# Altium integrated library Vishay Roederstein Electrolytic Radial-Lead Capacitor.IntLib: 1241 symbols (part 1 of 20)
Pins are listed as number, name and electrical type; pins without a type are passive.

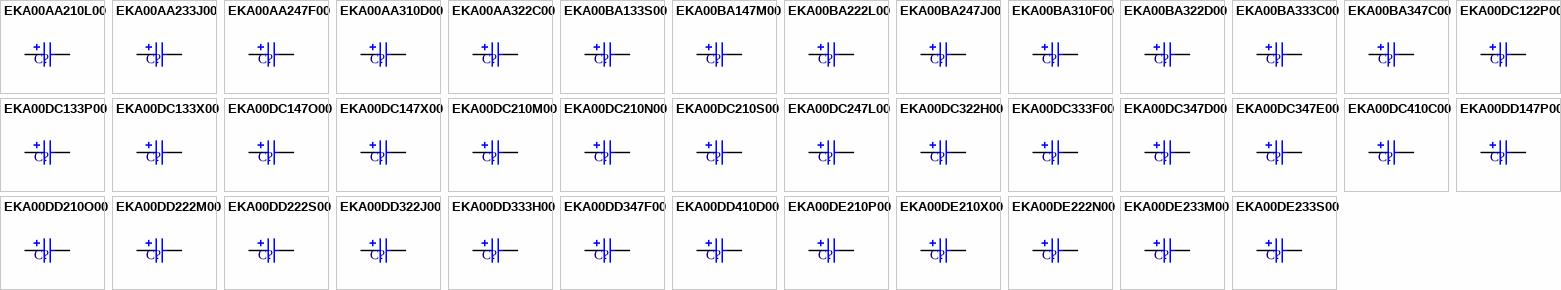
[diagram p0: symbols EKA00AA210L00 to EKA00DE233S00]

## EKA00AA210L00
designator C?
Aluminum Electrolytic Capacitor, Radial Style with Long Leads: 10uF, 100V; Note: Refer to Manufacturer's Data Sheets for other lead formations; DrillSize: Nominal, Rounded To The Nearest 0.1mm; Published: 19-Mar-2004; DatasheetDocument: 20-Feb-2001; PackageReference: CAPPR2-5X11; Publisher: Altium Limited; ComponentLink1Description: Manufacturer Link; ComponentLink1URL: http://www.vishay.com/; ComponentLink2Description: Datasheet; ComponentLink2URL: http://www.vishay.com/docs/25014/eka.pdf; Value: 10uF
footprint CAPPR2-5X11 (Capacitor, Electrolytic, Radial; Body 5 x 11 mm (Dia.xH typ); Pin Spacing 2 mm (typ))
simulation model CAP (Capacitor)
signal-integrity model EKA00AA210L00
pins: 1, 2
1 alternate drawing of the same symbol

## EKA00AA233J00
designator C?
Aluminum Electrolytic Capacitor, Radial Style with Long Leads: 33uF, 63V; Note: Refer to Manufacturer's Data Sheets for other lead formations; DrillSize: Nominal, Rounded To The Nearest 0.1mm; Published: 19-Mar-2004; DatasheetDocument: 20-Feb-2001; PackageReference: CAPPR2-5X11; Publisher: Altium Limited; ComponentLink1Description: Manufacturer Link; ComponentLink1URL: http://www.vishay.com/; ComponentLink2Description: Datasheet; ComponentLink2URL: http://www.vishay.com/docs/25014/eka.pdf; Value: 33uF
footprint CAPPR2-5X11 (Capacitor, Electrolytic, Radial; Body 5 x 11 mm (Dia.xH typ); Pin Spacing 2 mm (typ))
simulation model CAP (Capacitor)
signal-integrity model EKA00AA233J00
pins: 1, 2
1 alternate drawing of the same symbol

## EKA00AA247F00
designator C?
Aluminum Electrolytic Capacitor, Radial Style with Long Leads: 47uF, 35V; Note: Refer to Manufacturer's Data Sheets for other lead formations; DrillSize: Nominal, Rounded To The Nearest 0.1mm; Published: 19-Mar-2004; DatasheetDocument: 20-Feb-2001; PackageReference: CAPPR2-5X11; Publisher: Altium Limited; ComponentLink1Description: Manufacturer Link; ComponentLink1URL: http://www.vishay.com/; ComponentLink2Description: Datasheet; ComponentLink2URL: http://www.vishay.com/docs/25014/eka.pdf; Value: 47uF
footprint CAPPR2-5X11 (Capacitor, Electrolytic, Radial; Body 5 x 11 mm (Dia.xH typ); Pin Spacing 2 mm (typ))
simulation model CAP (Capacitor)
signal-integrity model EKA00AA247F00
pins: 1, 2
1 alternate drawing of the same symbol

## EKA00AA310D00
designator C?
Aluminum Electrolytic Capacitor, Radial Style with Long Leads: 100uF, 16V; Note: Refer to Manufacturer's Data Sheets for other lead formations; DrillSize: Nominal, Rounded To The Nearest 0.1mm; Published: 19-Mar-2004; DatasheetDocument: 20-Feb-2001; PackageReference: CAPPR2-5X11; Publisher: Altium Limited; ComponentLink1Description: Manufacturer Link; ComponentLink1URL: http://www.vishay.com/; ComponentLink2Description: Datasheet; ComponentLink2URL: http://www.vishay.com/docs/25014/eka.pdf; Value: 100uF
footprint CAPPR2-5X11 (Capacitor, Electrolytic, Radial; Body 5 x 11 mm (Dia.xH typ); Pin Spacing 2 mm (typ))
simulation model CAP (Capacitor)
signal-integrity model EKA00AA310D00
pins: 1, 2
1 alternate drawing of the same symbol

## EKA00AA322C00
designator C?
Aluminum Electrolytic Capacitor, Radial Style with Long Leads: 220uF, 10V; Note: Refer to Manufacturer's Data Sheets for other lead formations; DrillSize: Nominal, Rounded To The Nearest 0.1mm; Published: 19-Mar-2004; DatasheetDocument: 20-Feb-2001; PackageReference: CAPPR2-5X11; Publisher: Altium Limited; ComponentLink1Description: Manufacturer Link; ComponentLink1URL: http://www.vishay.com/; ComponentLink2Description: Datasheet; ComponentLink2URL: http://www.vishay.com/docs/25014/eka.pdf; Value: 220uF
footprint CAPPR2-5X11 (Capacitor, Electrolytic, Radial; Body 5 x 11 mm (Dia.xH typ); Pin Spacing 2 mm (typ))
simulation model CAP (Capacitor)
signal-integrity model EKA00AA322C00
pins: 1, 2
1 alternate drawing of the same symbol

## EKA00BA133S00
designator C?
Aluminum Electrolytic Capacitor, Radial Style with Long Leads: 3.3uF, 200V; Note: Refer to Manufacturer's Data Sheets for other lead formations; DrillSize: Nominal, Rounded To The Nearest 0.1mm; Published: 19-Mar-2004; DatasheetDocument: 20-Feb-2001; PackageReference: CAPPR2.5-6.3X11; Publisher: Altium Limited; ComponentLink1Description: Manufacturer Link; ComponentLink1URL: http://www.vishay.com/; ComponentLink2Description: Datasheet; ComponentLink2URL: http://www.vishay.com/docs/25014/eka.pdf; Value: 3.3uF
footprint CAPPR2.5-6.3X11 (Capacitor, Electrolytic, Radial; Body 6.3 x 11 mm (Dia.xH typ); Pin Spacing 2.5 mm (typ))
simulation model CAP (Capacitor)
signal-integrity model EKA00BA133S00
pins: 1, 2
1 alternate drawing of the same symbol

## EKA00BA147M00
designator C?
Aluminum Electrolytic Capacitor, Radial Style with Long Leads: 4.7uF, 160V; Note: Refer to Manufacturer's Data Sheets for other lead formations; DrillSize: Nominal, Rounded To The Nearest 0.1mm; Published: 19-Mar-2004; DatasheetDocument: 20-Feb-2001; PackageReference: CAPPR2.5-6.3X11; Publisher: Altium Limited; ComponentLink1Description: Manufacturer Link; ComponentLink1URL: http://www.vishay.com/; ComponentLink2Description: Datasheet; ComponentLink2URL: http://www.vishay.com/docs/25014/eka.pdf; Value: 4.7uF
footprint CAPPR2.5-6.3X11 (Capacitor, Electrolytic, Radial; Body 6.3 x 11 mm (Dia.xH typ); Pin Spacing 2.5 mm (typ))
simulation model CAP (Capacitor)
signal-integrity model EKA00BA147M00
pins: 1, 2
1 alternate drawing of the same symbol

## EKA00BA222L00
designator C?
Aluminum Electrolytic Capacitor, Radial Style with Long Leads: 22uF, 100V; Note: Refer to Manufacturer's Data Sheets for other lead formations; DrillSize: Nominal, Rounded To The Nearest 0.1mm; Published: 19-Mar-2004; DatasheetDocument: 20-Feb-2001; PackageReference: CAPPR2.5-6.3X11; Publisher: Altium Limited; ComponentLink1Description: Manufacturer Link; ComponentLink1URL: http://www.vishay.com/; ComponentLink2Description: Datasheet; ComponentLink2URL: http://www.vishay.com/docs/25014/eka.pdf; Value: 22uF
footprint CAPPR2.5-6.3X11 (Capacitor, Electrolytic, Radial; Body 6.3 x 11 mm (Dia.xH typ); Pin Spacing 2.5 mm (typ))
simulation model CAP (Capacitor)
signal-integrity model EKA00BA222L00
pins: 1, 2
1 alternate drawing of the same symbol

## EKA00BA247J00
designator C?
Aluminum Electrolytic Capacitor, Radial Style with Long Leads: 47uF, 63V; Note: Refer to Manufacturer's Data Sheets for other lead formations; DrillSize: Nominal, Rounded To The Nearest 0.1mm; Published: 19-Mar-2004; DatasheetDocument: 20-Feb-2001; PackageReference: CAPPR2.5-6.3X11; Publisher: Altium Limited; ComponentLink1Description: Manufacturer Link; ComponentLink1URL: http://www.vishay.com/; ComponentLink2Description: Datasheet; ComponentLink2URL: http://www.vishay.com/docs/25014/eka.pdf; Value: 47uF
footprint CAPPR2.5-6.3X11 (Capacitor, Electrolytic, Radial; Body 6.3 x 11 mm (Dia.xH typ); Pin Spacing 2.5 mm (typ))
simulation model CAP (Capacitor)
signal-integrity model EKA00BA247J00
pins: 1, 2
1 alternate drawing of the same symbol

## EKA00BA310F00
designator C?
Aluminum Electrolytic Capacitor, Radial Style with Long Leads: 100uF, 35V; Note: Refer to Manufacturer's Data Sheets for other lead formations; DrillSize: Nominal, Rounded To The Nearest 0.1mm; Published: 19-Mar-2004; DatasheetDocument: 20-Feb-2001; PackageReference: CAPPR2.5-6.3X11; Publisher: Altium Limited; ComponentLink1Description: Manufacturer Link; ComponentLink1URL: http://www.vishay.com/; ComponentLink2Description: Datasheet; ComponentLink2URL: http://www.vishay.com/docs/25014/eka.pdf; Value: 100uF
footprint CAPPR2.5-6.3X11 (Capacitor, Electrolytic, Radial; Body 6.3 x 11 mm (Dia.xH typ); Pin Spacing 2.5 mm (typ))
simulation model CAP (Capacitor)
signal-integrity model EKA00BA310F00
pins: 1, 2
1 alternate drawing of the same symbol

## EKA00BA322D00
designator C?
Aluminum Electrolytic Capacitor, Radial Style with Long Leads: 220uF, 16V; Note: Refer to Manufacturer's Data Sheets for other lead formations; DrillSize: Nominal, Rounded To The Nearest 0.1mm; Published: 19-Mar-2004; DatasheetDocument: 20-Feb-2001; PackageReference: CAPPR2.5-6.3X11; Publisher: Altium Limited; ComponentLink1Description: Manufacturer Link; ComponentLink1URL: http://www.vishay.com/; ComponentLink2Description: Datasheet; ComponentLink2URL: http://www.vishay.com/docs/25014/eka.pdf; Value: 220uF
footprint CAPPR2.5-6.3X11 (Capacitor, Electrolytic, Radial; Body 6.3 x 11 mm (Dia.xH typ); Pin Spacing 2.5 mm (typ))
simulation model CAP (Capacitor)
signal-integrity model EKA00BA322D00
pins: 1, 2
1 alternate drawing of the same symbol

## EKA00BA333C00
designator C?
Aluminum Electrolytic Capacitor, Radial Style with Long Leads: 330uF, 10V; Note: Refer to Manufacturer's Data Sheets for other lead formations; DrillSize: Nominal, Rounded To The Nearest 0.1mm; Published: 19-Mar-2004; DatasheetDocument: 20-Feb-2001; PackageReference: CAPPR2.5-6.3X11; Publisher: Altium Limited; ComponentLink1Description: Manufacturer Link; ComponentLink1URL: http://www.vishay.com/; ComponentLink2Description: Datasheet; ComponentLink2URL: http://www.vishay.com/docs/25014/eka.pdf; Value: 330uF
footprint CAPPR2.5-6.3X11 (Capacitor, Electrolytic, Radial; Body 6.3 x 11 mm (Dia.xH typ); Pin Spacing 2.5 mm (typ))
simulation model CAP (Capacitor)
signal-integrity model EKA00BA333C00
pins: 1, 2
1 alternate drawing of the same symbol

## EKA00BA347C00
designator C?
Aluminum Electrolytic Capacitor, Radial Style with Long Leads: 470uF, 10V; Note: Refer to Manufacturer's Data Sheets for other lead formations; DrillSize: Nominal, Rounded To The Nearest 0.1mm; Published: 19-Mar-2004; DatasheetDocument: 20-Feb-2001; PackageReference: CAPPR2.5-6.3X11; Publisher: Altium Limited; ComponentLink1Description: Manufacturer Link; ComponentLink1URL: http://www.vishay.com/; ComponentLink2Description: Datasheet; ComponentLink2URL: http://www.vishay.com/docs/25014/eka.pdf; Value: 470uF
footprint CAPPR2.5-6.3X11 (Capacitor, Electrolytic, Radial; Body 6.3 x 11 mm (Dia.xH typ); Pin Spacing 2.5 mm (typ))
simulation model CAP (Capacitor)
signal-integrity model EKA00BA347C00
pins: 1, 2
1 alternate drawing of the same symbol

## EKA00DC122P00
designator C?
Aluminum Electrolytic Capacitor, Radial Style with Long Leads: 2.2uF, 450V; Note: Refer to Manufacturer's Data Sheets for other lead formations; DrillSize: Nominal, Rounded To The Nearest 0.1mm; Published: 19-Mar-2004; DatasheetDocument: 20-Feb-2001; PackageReference: CAPPR5-10X12.5; Publisher: Altium Limited; ComponentLink1Description: Manufacturer Link; ComponentLink1URL: http://www.vishay.com/; ComponentLink2Description: Datasheet; ComponentLink2URL: http://www.vishay.com/docs/25014/eka.pdf; Value: 2.2uF
footprint CAPPR5-10X12.5 (Capacitor, Electrolytic, Radial; Body 10 x 12.5 mm (Dia.xH typ); Pin Spacing 5 mm (typ))
simulation model CAP (Capacitor)
signal-integrity model EKA00DC122P00
pins: 1, 2
1 alternate drawing of the same symbol

## EKA00DC133P00
designator C?
Aluminum Electrolytic Capacitor, Radial Style with Long Leads: 3.3uF, 450V; Note: Refer to Manufacturer's Data Sheets for other lead formations; DrillSize: Nominal, Rounded To The Nearest 0.1mm; Published: 19-Mar-2004; DatasheetDocument: 20-Feb-2001; PackageReference: CAPPR5-10X12.5; Publisher: Altium Limited; ComponentLink1Description: Manufacturer Link; ComponentLink1URL: http://www.vishay.com/; ComponentLink2Description: Datasheet; ComponentLink2URL: http://www.vishay.com/docs/25014/eka.pdf; Value: 3.3uF
footprint CAPPR5-10X12.5 (Capacitor, Electrolytic, Radial; Body 10 x 12.5 mm (Dia.xH typ); Pin Spacing 5 mm (typ))
simulation model CAP (Capacitor)
signal-integrity model EKA00DC133P00
pins: 1, 2
1 alternate drawing of the same symbol

## EKA00DC133X00
designator C?
Aluminum Electrolytic Capacitor, Radial Style with Long Leads: 3.3uF, 400V; Note: Refer to Manufacturer's Data Sheets for other lead formations; DrillSize: Nominal, Rounded To The Nearest 0.1mm; Published: 19-Mar-2004; DatasheetDocument: 20-Feb-2001; PackageReference: CAPPR5-10X12.5; Publisher: Altium Limited; ComponentLink1Description: Manufacturer Link; ComponentLink1URL: http://www.vishay.com/; ComponentLink2Description: Datasheet; ComponentLink2URL: http://www.vishay.com/docs/25014/eka.pdf; Value: 3.3uF
footprint CAPPR5-10X12.5 (Capacitor, Electrolytic, Radial; Body 10 x 12.5 mm (Dia.xH typ); Pin Spacing 5 mm (typ))
simulation model CAP (Capacitor)
signal-integrity model EKA00DC133X00
pins: 1, 2
1 alternate drawing of the same symbol

## EKA00DC147O00
designator C?
Aluminum Electrolytic Capacitor, Radial Style with Long Leads: 4.7uF, 350V; Note: Refer to Manufacturer's Data Sheets for other lead formations; DrillSize: Nominal, Rounded To The Nearest 0.1mm; Published: 19-Mar-2004; DatasheetDocument: 20-Feb-2001; PackageReference: CAPPR5-10X12.5; Publisher: Altium Limited; ComponentLink1Description: Manufacturer Link; ComponentLink1URL: http://www.vishay.com/; ComponentLink2Description: Datasheet; ComponentLink2URL: http://www.vishay.com/docs/25014/eka.pdf; Value: 4.7uF
footprint CAPPR5-10X12.5 (Capacitor, Electrolytic, Radial; Body 10 x 12.5 mm (Dia.xH typ); Pin Spacing 5 mm (typ))
simulation model CAP (Capacitor)
signal-integrity model EKA00DC147O00
pins: 1, 2
1 alternate drawing of the same symbol

## EKA00DC147X00
designator C?
Aluminum Electrolytic Capacitor, Radial Style with Long Leads: 4.7uF, 400V; Note: Refer to Manufacturer's Data Sheets for other lead formations; DrillSize: Nominal, Rounded To The Nearest 0.1mm; Published: 19-Mar-2004; DatasheetDocument: 20-Feb-2001; PackageReference: CAPPR5-10X12.5; Publisher: Altium Limited; ComponentLink1Description: Manufacturer Link; ComponentLink1URL: http://www.vishay.com/; ComponentLink2Description: Datasheet; ComponentLink2URL: http://www.vishay.com/docs/25014/eka.pdf; Value: 4.7uF
footprint CAPPR5-10X12.5 (Capacitor, Electrolytic, Radial; Body 10 x 12.5 mm (Dia.xH typ); Pin Spacing 5 mm (typ))
simulation model CAP (Capacitor)
signal-integrity model EKA00DC147X00
pins: 1, 2
1 alternate drawing of the same symbol

## EKA00DC210M00
designator C?
Aluminum Electrolytic Capacitor, Radial Style with Long Leads: 10uF, 160V; Note: Refer to Manufacturer's Data Sheets for other lead formations; DrillSize: Nominal, Rounded To The Nearest 0.1mm; Published: 19-Mar-2004; DatasheetDocument: 20-Feb-2001; PackageReference: CAPPR5-10X12.5; Publisher: Altium Limited; ComponentLink1Description: Manufacturer Link; ComponentLink1URL: http://www.vishay.com/; ComponentLink2Description: Datasheet; ComponentLink2URL: http://www.vishay.com/docs/25014/eka.pdf; Value: 10uF
footprint CAPPR5-10X12.5 (Capacitor, Electrolytic, Radial; Body 10 x 12.5 mm (Dia.xH typ); Pin Spacing 5 mm (typ))
simulation model CAP (Capacitor)
signal-integrity model EKA00DC210M00
pins: 1, 2
1 alternate drawing of the same symbol

## EKA00DC210N00
designator C?
Aluminum Electrolytic Capacitor, Radial Style with Long Leads: 10uF, 250V; Note: Refer to Manufacturer's Data Sheets for other lead formations; DrillSize: Nominal, Rounded To The Nearest 0.1mm; Published: 19-Mar-2004; DatasheetDocument: 20-Feb-2001; PackageReference: CAPPR5-10X12.5; Publisher: Altium Limited; ComponentLink1Description: Manufacturer Link; ComponentLink1URL: http://www.vishay.com/; ComponentLink2Description: Datasheet; ComponentLink2URL: http://www.vishay.com/docs/25014/eka.pdf; Value: 10uF
footprint CAPPR5-10X12.5 (Capacitor, Electrolytic, Radial; Body 10 x 12.5 mm (Dia.xH typ); Pin Spacing 5 mm (typ))
simulation model CAP (Capacitor)
signal-integrity model EKA00DC210N00
pins: 1, 2
1 alternate drawing of the same symbol

## EKA00DC210S00
designator C?
Aluminum Electrolytic Capacitor, Radial Style with Long Leads: 10uF, 200V; Note: Refer to Manufacturer's Data Sheets for other lead formations; DrillSize: Nominal, Rounded To The Nearest 0.1mm; Published: 19-Mar-2004; DatasheetDocument: 20-Feb-2001; PackageReference: CAPPR5-10X12.5; Publisher: Altium Limited; ComponentLink1Description: Manufacturer Link; ComponentLink1URL: http://www.vishay.com/; ComponentLink2Description: Datasheet; ComponentLink2URL: http://www.vishay.com/docs/25014/eka.pdf; Value: 10uF
footprint CAPPR5-10X12.5 (Capacitor, Electrolytic, Radial; Body 10 x 12.5 mm (Dia.xH typ); Pin Spacing 5 mm (typ))
simulation model CAP (Capacitor)
signal-integrity model EKA00DC210S00
pins: 1, 2
1 alternate drawing of the same symbol

## EKA00DC247L00
designator C?
Aluminum Electrolytic Capacitor, Radial Style with Long Leads: 47uF, 100V; Note: Refer to Manufacturer's Data Sheets for other lead formations; DrillSize: Nominal, Rounded To The Nearest 0.1mm; Published: 19-Mar-2004; DatasheetDocument: 20-Feb-2001; PackageReference: CAPPR5-10X12.5; Publisher: Altium Limited; ComponentLink1Description: Manufacturer Link; ComponentLink1URL: http://www.vishay.com/; ComponentLink2Description: Datasheet; ComponentLink2URL: http://www.vishay.com/docs/25014/eka.pdf; Value: 47uF
footprint CAPPR5-10X12.5 (Capacitor, Electrolytic, Radial; Body 10 x 12.5 mm (Dia.xH typ); Pin Spacing 5 mm (typ))
simulation model CAP (Capacitor)
signal-integrity model EKA00DC247L00
pins: 1, 2
1 alternate drawing of the same symbol

## EKA00DC322H00
designator C?
Aluminum Electrolytic Capacitor, Radial Style with Long Leads: 220uF, 50V; Note: Refer to Manufacturer's Data Sheets for other lead formations; DrillSize: Nominal, Rounded To The Nearest 0.1mm; Published: 19-Mar-2004; DatasheetDocument: 20-Feb-2001; PackageReference: CAPPR5-10X12.5; Publisher: Altium Limited; ComponentLink1Description: Manufacturer Link; ComponentLink1URL: http://www.vishay.com/; ComponentLink2Description: Datasheet; ComponentLink2URL: http://www.vishay.com/docs/25014/eka.pdf; Value: 220uF
footprint CAPPR5-10X12.5 (Capacitor, Electrolytic, Radial; Body 10 x 12.5 mm (Dia.xH typ); Pin Spacing 5 mm (typ))
simulation model CAP (Capacitor)
signal-integrity model EKA00DC322H00
pins: 1, 2
1 alternate drawing of the same symbol

## EKA00DC333F00
designator C?
Aluminum Electrolytic Capacitor, Radial Style with Long Leads: 330uF, 35V; Note: Refer to Manufacturer's Data Sheets for other lead formations; DrillSize: Nominal, Rounded To The Nearest 0.1mm; Published: 19-Mar-2004; DatasheetDocument: 20-Feb-2001; PackageReference: CAPPR5-10X12.5; Publisher: Altium Limited; ComponentLink1Description: Manufacturer Link; ComponentLink1URL: http://www.vishay.com/; ComponentLink2Description: Datasheet; ComponentLink2URL: http://www.vishay.com/docs/25014/eka.pdf; Value: 330uF
footprint CAPPR5-10X12.5 (Capacitor, Electrolytic, Radial; Body 10 x 12.5 mm (Dia.xH typ); Pin Spacing 5 mm (typ))
simulation model CAP (Capacitor)
signal-integrity model EKA00DC333F00
pins: 1, 2
1 alternate drawing of the same symbol

## EKA00DC347D00
designator C?
Aluminum Electrolytic Capacitor, Radial Style with Long Leads: 470uF, 16V; Note: Refer to Manufacturer's Data Sheets for other lead formations; DrillSize: Nominal, Rounded To The Nearest 0.1mm; Published: 19-Mar-2004; DatasheetDocument: 20-Feb-2001; PackageReference: CAPPR3.5-8X11.5; Publisher: Altium Limited; ComponentLink1Description: Manufacturer Link; ComponentLink1URL: http://www.vishay.com/; ComponentLink2Description: Datasheet; ComponentLink2URL: http://www.vishay.com/docs/25014/eka.pdf; Value: 470uF
footprint CAPPR3.5-8X11.5 (Capacitor, Electrolytic, Radial; Body 8 x 11.5 mm (Dia.xH typ); Pin Spacing 3.5 mm (typ))
simulation model CAP (Capacitor)
signal-integrity model EKA00DC347D00
pins: 1, 2
1 alternate drawing of the same symbol

## EKA00DC347E00
designator C?
Aluminum Electrolytic Capacitor, Radial Style with Long Leads: 470uF, 25V; Note: Refer to Manufacturer's Data Sheets for other lead formations; DrillSize: Nominal, Rounded To The Nearest 0.1mm; Published: 19-Mar-2004; DatasheetDocument: 20-Feb-2001; PackageReference: CAPPR5-10X12.5; Publisher: Altium Limited; ComponentLink1Description: Manufacturer Link; ComponentLink1URL: http://www.vishay.com/; ComponentLink2Description: Datasheet; ComponentLink2URL: http://www.vishay.com/docs/25014/eka.pdf; Value: 470uF
footprint CAPPR5-10X12.5 (Capacitor, Electrolytic, Radial; Body 10 x 12.5 mm (Dia.xH typ); Pin Spacing 5 mm (typ))
simulation model CAP (Capacitor)
signal-integrity model EKA00DC347E00
pins: 1, 2
1 alternate drawing of the same symbol

## EKA00DC410C00
designator C?
Aluminum Electrolytic Capacitor, Radial Style with Long Leads: 1000uF, 10V; Note: Refer to Manufacturer's Data Sheets for other lead formations; DrillSize: Nominal, Rounded To The Nearest 0.1mm; Published: 19-Mar-2004; DatasheetDocument: 20-Feb-2001; PackageReference: CAPPR5-10X12.5; Publisher: Altium Limited; ComponentLink1Description: Manufacturer Link; ComponentLink1URL: http://www.vishay.com/; ComponentLink2Description: Datasheet; ComponentLink2URL: http://www.vishay.com/docs/25014/eka.pdf; Value: 1000uF
footprint CAPPR5-10X12.5 (Capacitor, Electrolytic, Radial; Body 10 x 12.5 mm (Dia.xH typ); Pin Spacing 5 mm (typ))
simulation model CAP (Capacitor)
signal-integrity model EKA00DC410C00
pins: 1, 2
1 alternate drawing of the same symbol

## EKA00DD147P00
designator C?
Aluminum Electrolytic Capacitor, Radial Style with Long Leads: 4.7uF, 450V; Note: Refer to Manufacturer's Data Sheets for other lead formations; DrillSize: Nominal, Rounded To The Nearest 0.1mm; Published: 19-Mar-2004; DatasheetDocument: 20-Feb-2001; PackageReference: CAPPR5-10X16; Publisher: Altium Limited; ComponentLink1Description: Manufacturer Link; ComponentLink1URL: http://www.vishay.com/; ComponentLink2Description: Datasheet; ComponentLink2URL: http://www.vishay.com/docs/25014/eka.pdf; Value: 4.7uF
footprint CAPPR5-10X16 (Capacitor, Electrolytic, Radial; Body 10 x 16 mm (Dia.xH typ); Pin Spacing 5 mm (typ))
simulation model CAP (Capacitor)
signal-integrity model EKA00DD147P00
pins: 1, 2
1 alternate drawing of the same symbol

## EKA00DD210O00
designator C?
Aluminum Electrolytic Capacitor, Radial Style with Long Leads: 10uF, 350V; Note: Refer to Manufacturer's Data Sheets for other lead formations; DrillSize: Nominal, Rounded To The Nearest 0.1mm; Published: 19-Mar-2004; DatasheetDocument: 20-Feb-2001; PackageReference: CAPPR5-10X16; Publisher: Altium Limited; ComponentLink1Description: Manufacturer Link; ComponentLink1URL: http://www.vishay.com/; ComponentLink2Description: Datasheet; ComponentLink2URL: http://www.vishay.com/docs/25014/eka.pdf; Value: 10uF
footprint CAPPR5-10X16 (Capacitor, Electrolytic, Radial; Body 10 x 16 mm (Dia.xH typ); Pin Spacing 5 mm (typ))
simulation model CAP (Capacitor)
signal-integrity model EKA00DD210O00
pins: 1, 2
1 alternate drawing of the same symbol

## EKA00DD222M00
designator C?
Aluminum Electrolytic Capacitor, Radial Style with Long Leads: 22uF, 160V; Note: Refer to Manufacturer's Data Sheets for other lead formations; DrillSize: Nominal, Rounded To The Nearest 0.1mm; Published: 19-Mar-2004; DatasheetDocument: 20-Feb-2001; PackageReference: CAPPR5-10X16; Publisher: Altium Limited; ComponentLink1Description: Manufacturer Link; ComponentLink1URL: http://www.vishay.com/; ComponentLink2Description: Datasheet; ComponentLink2URL: http://www.vishay.com/docs/25014/eka.pdf; Value: 22uF
footprint CAPPR5-10X16 (Capacitor, Electrolytic, Radial; Body 10 x 16 mm (Dia.xH typ); Pin Spacing 5 mm (typ))
simulation model CAP (Capacitor)
signal-integrity model EKA00DD222M00
pins: 1, 2
1 alternate drawing of the same symbol

## EKA00DD222S00
designator C?
Aluminum Electrolytic Capacitor, Radial Style with Long Leads: 22uF, 200V; Note: Refer to Manufacturer's Data Sheets for other lead formations; DrillSize: Nominal, Rounded To The Nearest 0.1mm; Published: 19-Mar-2004; DatasheetDocument: 20-Feb-2001; PackageReference: CAPPR5-10X16; Publisher: Altium Limited; ComponentLink1Description: Manufacturer Link; ComponentLink1URL: http://www.vishay.com/; ComponentLink2Description: Datasheet; ComponentLink2URL: http://www.vishay.com/docs/25014/eka.pdf; Value: 22uF
footprint CAPPR5-10X16 (Capacitor, Electrolytic, Radial; Body 10 x 16 mm (Dia.xH typ); Pin Spacing 5 mm (typ))
simulation model CAP (Capacitor)
signal-integrity model EKA00DD222S00
pins: 1, 2
1 alternate drawing of the same symbol

## EKA00DD322J00
designator C?
Aluminum Electrolytic Capacitor, Radial Style with Long Leads: 220uF, 63V; Note: Refer to Manufacturer's Data Sheets for other lead formations; DrillSize: Nominal, Rounded To The Nearest 0.1mm; Published: 19-Mar-2004; DatasheetDocument: 20-Feb-2001; PackageReference: CAPPR5-10X16; Publisher: Altium Limited; ComponentLink1Description: Manufacturer Link; ComponentLink1URL: http://www.vishay.com/; ComponentLink2Description: Datasheet; ComponentLink2URL: http://www.vishay.com/docs/25014/eka.pdf; Value: 220uF
footprint CAPPR5-10X16 (Capacitor, Electrolytic, Radial; Body 10 x 16 mm (Dia.xH typ); Pin Spacing 5 mm (typ))
simulation model CAP (Capacitor)
signal-integrity model EKA00DD322J00
pins: 1, 2
1 alternate drawing of the same symbol

## EKA00DD333H00
designator C?
Aluminum Electrolytic Capacitor, Radial Style with Long Leads: 330uF, 50V; Note: Refer to Manufacturer's Data Sheets for other lead formations; DrillSize: Nominal, Rounded To The Nearest 0.1mm; Published: 19-Mar-2004; DatasheetDocument: 20-Feb-2001; PackageReference: CAPPR5-10X16; Publisher: Altium Limited; ComponentLink1Description: Manufacturer Link; ComponentLink1URL: http://www.vishay.com/; ComponentLink2Description: Datasheet; ComponentLink2URL: http://www.vishay.com/docs/25014/eka.pdf; Value: 330uF
footprint CAPPR5-10X16 (Capacitor, Electrolytic, Radial; Body 10 x 16 mm (Dia.xH typ); Pin Spacing 5 mm (typ))
simulation model CAP (Capacitor)
signal-integrity model EKA00DD333H00
pins: 1, 2
1 alternate drawing of the same symbol

## EKA00DD347F00
designator C?
Aluminum Electrolytic Capacitor, Radial Style with Long Leads: 470uF, 35V; Note: Refer to Manufacturer's Data Sheets for other lead formations; DrillSize: Nominal, Rounded To The Nearest 0.1mm; Published: 19-Mar-2004; DatasheetDocument: 20-Feb-2001; PackageReference: CAPPR5-10X16; Publisher: Altium Limited; ComponentLink1Description: Manufacturer Link; ComponentLink1URL: http://www.vishay.com/; ComponentLink2Description: Datasheet; ComponentLink2URL: http://www.vishay.com/docs/25014/eka.pdf; Value: 470uF
footprint CAPPR5-10X16 (Capacitor, Electrolytic, Radial; Body 10 x 16 mm (Dia.xH typ); Pin Spacing 5 mm (typ))
simulation model CAP (Capacitor)
signal-integrity model EKA00DD347F00
pins: 1, 2
1 alternate drawing of the same symbol

## EKA00DD410D00
designator C?
Aluminum Electrolytic Capacitor, Radial Style with Long Leads: 1000uF, 16V; Note: Refer to Manufacturer's Data Sheets for other lead formations; DrillSize: Nominal, Rounded To The Nearest 0.1mm; Published: 19-Mar-2004; DatasheetDocument: 20-Feb-2001; PackageReference: CAPPR5-10X16; Publisher: Altium Limited; ComponentLink1Description: Manufacturer Link; ComponentLink1URL: http://www.vishay.com/; ComponentLink2Description: Datasheet; ComponentLink2URL: http://www.vishay.com/docs/25014/eka.pdf; Value: 1000uF
footprint CAPPR5-10X16 (Capacitor, Electrolytic, Radial; Body 10 x 16 mm (Dia.xH typ); Pin Spacing 5 mm (typ))
simulation model CAP (Capacitor)
signal-integrity model EKA00DD410D00
pins: 1, 2
1 alternate drawing of the same symbol

## EKA00DE210P00
designator C?
Aluminum Electrolytic Capacitor, Radial Style with Long Leads: 10uF, 450V; Note: Refer to Manufacturer's Data Sheets for other lead formations; DrillSize: Nominal, Rounded To The Nearest 0.1mm; Published: 19-Mar-2004; DatasheetDocument: 20-Feb-2001; PackageReference: CAPPR5-10X20; Publisher: Altium Limited; ComponentLink1Description: Manufacturer Link; ComponentLink1URL: http://www.vishay.com/; ComponentLink2Description: Datasheet; ComponentLink2URL: http://www.vishay.com/docs/25014/eka.pdf; Value: 10uF
footprint CAPPR5-10X20 (Capacitor, Electrolytic, Radial; Body 10 x 20 mm (Dia.xH typ); Pin Spacing 5 mm (typ))
simulation model CAP (Capacitor)
signal-integrity model EKA00DE210P00
pins: 1, 2
1 alternate drawing of the same symbol

## EKA00DE210X00
designator C?
Aluminum Electrolytic Capacitor, Radial Style with Long Leads: 10uF, 400V; Note: Refer to Manufacturer's Data Sheets for other lead formations; DrillSize: Nominal, Rounded To The Nearest 0.1mm; Published: 19-Mar-2004; DatasheetDocument: 20-Feb-2001; PackageReference: CAPPR5-10X20; Publisher: Altium Limited; ComponentLink1Description: Manufacturer Link; ComponentLink1URL: http://www.vishay.com/; ComponentLink2Description: Datasheet; ComponentLink2URL: http://www.vishay.com/docs/25014/eka.pdf; Value: 10uF
footprint CAPPR5-10X20 (Capacitor, Electrolytic, Radial; Body 10 x 20 mm (Dia.xH typ); Pin Spacing 5 mm (typ))
simulation model CAP (Capacitor)
signal-integrity model EKA00DE210X00
pins: 1, 2
1 alternate drawing of the same symbol

## EKA00DE222N00
designator C?
Aluminum Electrolytic Capacitor, Radial Style with Long Leads: 22uF, 250V; Note: Refer to Manufacturer's Data Sheets for other lead formations; DrillSize: Nominal, Rounded To The Nearest 0.1mm; Published: 19-Mar-2004; DatasheetDocument: 20-Feb-2001; PackageReference: CAPPR5-10X20; Publisher: Altium Limited; ComponentLink1Description: Manufacturer Link; ComponentLink1URL: http://www.vishay.com/; ComponentLink2Description: Datasheet; ComponentLink2URL: http://www.vishay.com/docs/25014/eka.pdf; Value: 22uF
footprint CAPPR5-10X20 (Capacitor, Electrolytic, Radial; Body 10 x 20 mm (Dia.xH typ); Pin Spacing 5 mm (typ))
simulation model CAP (Capacitor)
signal-integrity model EKA00DE222N00
pins: 1, 2
1 alternate drawing of the same symbol

## EKA00DE233M00
designator C?
Aluminum Electrolytic Capacitor, Radial Style with Long Leads: 33uF, 160V; Note: Refer to Manufacturer's Data Sheets for other lead formations; DrillSize: Nominal, Rounded To The Nearest 0.1mm; Published: 19-Mar-2004; DatasheetDocument: 20-Feb-2001; PackageReference: CAPPR5-10X20; Publisher: Altium Limited; ComponentLink1Description: Manufacturer Link; ComponentLink1URL: http://www.vishay.com/; ComponentLink2Description: Datasheet; ComponentLink2URL: http://www.vishay.com/docs/25014/eka.pdf; Value: 33uF
footprint CAPPR5-10X20 (Capacitor, Electrolytic, Radial; Body 10 x 20 mm (Dia.xH typ); Pin Spacing 5 mm (typ))
simulation model CAP (Capacitor)
signal-integrity model EKA00DE233M00
pins: 1, 2
1 alternate drawing of the same symbol

## EKA00DE233S00
designator C?
Aluminum Electrolytic Capacitor, Radial Style with Long Leads: 33uF, 200V; Note: Refer to Manufacturer's Data Sheets for other lead formations; DrillSize: Nominal, Rounded To The Nearest 0.1mm; Published: 19-Mar-2004; DatasheetDocument: 20-Feb-2001; PackageReference: CAPPR5-10X20; Publisher: Altium Limited; ComponentLink1Description: Manufacturer Link; ComponentLink1URL: http://www.vishay.com/; ComponentLink2Description: Datasheet; ComponentLink2URL: http://www.vishay.com/docs/25014/eka.pdf; Value: 33uF
footprint CAPPR5-10X20 (Capacitor, Electrolytic, Radial; Body 10 x 20 mm (Dia.xH typ); Pin Spacing 5 mm (typ))
simulation model CAP (Capacitor)
signal-integrity model EKA00DE233S00
pins: 1, 2
1 alternate drawing of the same symbol

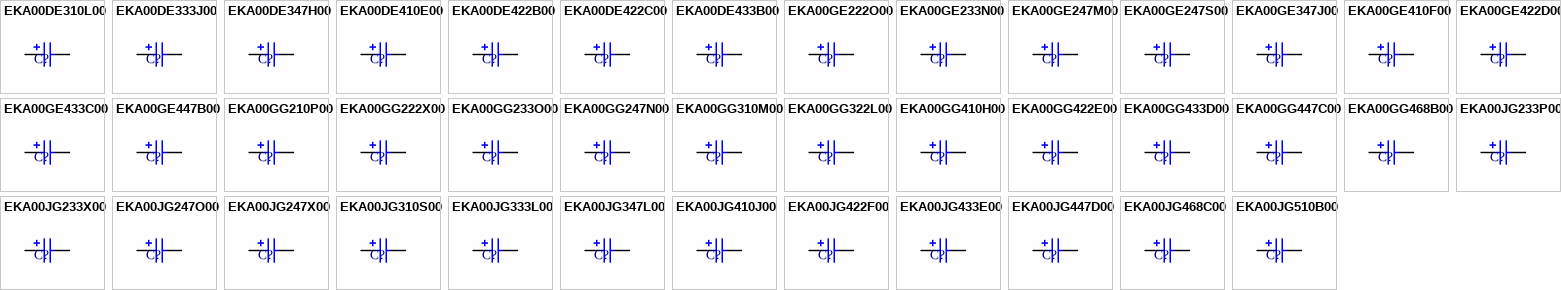
[diagram p1: symbols EKA00DE310L00 to EKA00JG510B00]

## EKA00DE310L00
designator C?
Aluminum Electrolytic Capacitor, Radial Style with Long Leads: 100uF, 100V; Note: Refer to Manufacturer's Data Sheets for other lead formations; DrillSize: Nominal, Rounded To The Nearest 0.1mm; Published: 19-Mar-2004; DatasheetDocument: 20-Feb-2001; PackageReference: CAPPR5-10X20; Publisher: Altium Limited; ComponentLink1Description: Manufacturer Link; ComponentLink1URL: http://www.vishay.com/; ComponentLink2Description: Datasheet; ComponentLink2URL: http://www.vishay.com/docs/25014/eka.pdf; Value: 100uF
footprint CAPPR5-10X20 (Capacitor, Electrolytic, Radial; Body 10 x 20 mm (Dia.xH typ); Pin Spacing 5 mm (typ))
simulation model CAP (Capacitor)
signal-integrity model EKA00DE310L00
pins: 1, 2
1 alternate drawing of the same symbol

## EKA00DE333J00
designator C?
Aluminum Electrolytic Capacitor, Radial Style with Long Leads: 330uF, 63V; Note: Refer to Manufacturer's Data Sheets for other lead formations; DrillSize: Nominal, Rounded To The Nearest 0.1mm; Published: 19-Mar-2004; DatasheetDocument: 20-Feb-2001; PackageReference: CAPPR5-10X20; Publisher: Altium Limited; ComponentLink1Description: Manufacturer Link; ComponentLink1URL: http://www.vishay.com/; ComponentLink2Description: Datasheet; ComponentLink2URL: http://www.vishay.com/docs/25014/eka.pdf; Value: 330uF
footprint CAPPR5-10X20 (Capacitor, Electrolytic, Radial; Body 10 x 20 mm (Dia.xH typ); Pin Spacing 5 mm (typ))
simulation model CAP (Capacitor)
signal-integrity model EKA00DE333J00
pins: 1, 2
1 alternate drawing of the same symbol

## EKA00DE347H00
designator C?
Aluminum Electrolytic Capacitor, Radial Style with Long Leads: 470uF, 50V; Note: Refer to Manufacturer's Data Sheets for other lead formations; DrillSize: Nominal, Rounded To The Nearest 0.1mm; Published: 19-Mar-2004; DatasheetDocument: 20-Feb-2001; PackageReference: CAPPR5-10X20; Publisher: Altium Limited; ComponentLink1Description: Manufacturer Link; ComponentLink1URL: http://www.vishay.com/; ComponentLink2Description: Datasheet; ComponentLink2URL: http://www.vishay.com/docs/25014/eka.pdf; Value: 470uF
footprint CAPPR5-10X20 (Capacitor, Electrolytic, Radial; Body 10 x 20 mm (Dia.xH typ); Pin Spacing 5 mm (typ))
simulation model CAP (Capacitor)
signal-integrity model EKA00DE347H00
pins: 1, 2
1 alternate drawing of the same symbol

## EKA00DE410E00
designator C?
Aluminum Electrolytic Capacitor, Radial Style with Long Leads: 1000uF, 25V; Note: Refer to Manufacturer's Data Sheets for other lead formations; DrillSize: Nominal, Rounded To The Nearest 0.1mm; Published: 19-Mar-2004; DatasheetDocument: 20-Feb-2001; PackageReference: CAPPR5-10X20; Publisher: Altium Limited; ComponentLink1Description: Manufacturer Link; ComponentLink1URL: http://www.vishay.com/; ComponentLink2Description: Datasheet; ComponentLink2URL: http://www.vishay.com/docs/25014/eka.pdf; Value: 1000uF
footprint CAPPR5-10X20 (Capacitor, Electrolytic, Radial; Body 10 x 20 mm (Dia.xH typ); Pin Spacing 5 mm (typ))
simulation model CAP (Capacitor)
signal-integrity model EKA00DE410E00
pins: 1, 2
1 alternate drawing of the same symbol

## EKA00DE422B00
designator C?
Aluminum Electrolytic Capacitor, Radial Style with Long Leads: 2200uF, 6.3V; Note: Refer to Manufacturer's Data Sheets for other lead formations; DrillSize: Nominal, Rounded To The Nearest 0.1mm; Published: 19-Mar-2004; DatasheetDocument: 20-Feb-2001; PackageReference: CAPPR5-10X20; Publisher: Altium Limited; ComponentLink1Description: Manufacturer Link; ComponentLink1URL: http://www.vishay.com/; ComponentLink2Description: Datasheet; ComponentLink2URL: http://www.vishay.com/docs/25014/eka.pdf; Value: 2200uF
footprint CAPPR5-10X20 (Capacitor, Electrolytic, Radial; Body 10 x 20 mm (Dia.xH typ); Pin Spacing 5 mm (typ))
simulation model CAP (Capacitor)
signal-integrity model EKA00DE422B00
pins: 1, 2
1 alternate drawing of the same symbol

## EKA00DE422C00
designator C?
Aluminum Electrolytic Capacitor, Radial Style with Long Leads: 2200uF, 10V; Note: Refer to Manufacturer's Data Sheets for other lead formations; DrillSize: Nominal, Rounded To The Nearest 0.1mm; Published: 19-Mar-2004; DatasheetDocument: 20-Feb-2001; PackageReference: CAPPR5-10X20; Publisher: Altium Limited; ComponentLink1Description: Manufacturer Link; ComponentLink1URL: http://www.vishay.com/; ComponentLink2Description: Datasheet; ComponentLink2URL: http://www.vishay.com/docs/25014/eka.pdf; Value: 2200uF
footprint CAPPR5-10X20 (Capacitor, Electrolytic, Radial; Body 10 x 20 mm (Dia.xH typ); Pin Spacing 5 mm (typ))
simulation model CAP (Capacitor)
signal-integrity model EKA00DE422C00
pins: 1, 2
1 alternate drawing of the same symbol

## EKA00DE433B00
designator C?
Aluminum Electrolytic Capacitor, Radial Style with Long Leads: 3300uF, 6.3V; Note: Refer to Manufacturer's Data Sheets for other lead formations; DrillSize: Nominal, Rounded To The Nearest 0.1mm; Published: 19-Mar-2004; DatasheetDocument: 20-Feb-2001; PackageReference: CAPPR5-10X20; Publisher: Altium Limited; ComponentLink1Description: Manufacturer Link; ComponentLink1URL: http://www.vishay.com/; ComponentLink2Description: Datasheet; ComponentLink2URL: http://www.vishay.com/docs/25014/eka.pdf; Value: 3300uF
footprint CAPPR5-10X20 (Capacitor, Electrolytic, Radial; Body 10 x 20 mm (Dia.xH typ); Pin Spacing 5 mm (typ))
simulation model CAP (Capacitor)
signal-integrity model EKA00DE433B00
pins: 1, 2
1 alternate drawing of the same symbol

## EKA00GE222O00
designator C?
Aluminum Electrolytic Capacitor, Radial Style with Long Leads: 22uF, 350V; Note: Refer to Manufacturer's Data Sheets for other lead formations; DrillSize: Nominal, Rounded To The Nearest 0.1mm; Published: 19-Mar-2004; DatasheetDocument: 20-Feb-2001; PackageReference: CAPPR5-13X20; Publisher: Altium Limited; ComponentLink1Description: Manufacturer Link; ComponentLink1URL: http://www.vishay.com/; ComponentLink2Description: Datasheet; ComponentLink2URL: http://www.vishay.com/docs/25014/eka.pdf; Value: 22uF
footprint CAPPR5-13X20 (Capacitor, Electrolytic, Radial; Body 13 x 20 mm (Dia.xH typ); Pin Spacing 5 mm (typ))
simulation model CAP (Capacitor)
signal-integrity model EKA00GE222O00
pins: 1, 2
1 alternate drawing of the same symbol

## EKA00GE233N00
designator C?
Aluminum Electrolytic Capacitor, Radial Style with Long Leads: 33uF, 250V; Note: Refer to Manufacturer's Data Sheets for other lead formations; DrillSize: Nominal, Rounded To The Nearest 0.1mm; Published: 19-Mar-2004; DatasheetDocument: 20-Feb-2001; PackageReference: CAPPR5-13X20; Publisher: Altium Limited; ComponentLink1Description: Manufacturer Link; ComponentLink1URL: http://www.vishay.com/; ComponentLink2Description: Datasheet; ComponentLink2URL: http://www.vishay.com/docs/25014/eka.pdf; Value: 33uF
footprint CAPPR5-13X20 (Capacitor, Electrolytic, Radial; Body 13 x 20 mm (Dia.xH typ); Pin Spacing 5 mm (typ))
simulation model CAP (Capacitor)
signal-integrity model EKA00GE233N00
pins: 1, 2
1 alternate drawing of the same symbol

## EKA00GE247M00
designator C?
Aluminum Electrolytic Capacitor, Radial Style with Long Leads: 47uF, 160V; Note: Refer to Manufacturer's Data Sheets for other lead formations; DrillSize: Nominal, Rounded To The Nearest 0.1mm; Published: 19-Mar-2004; DatasheetDocument: 20-Feb-2001; PackageReference: CAPPR5-13X20; Publisher: Altium Limited; ComponentLink1Description: Manufacturer Link; ComponentLink1URL: http://www.vishay.com/; ComponentLink2Description: Datasheet; ComponentLink2URL: http://www.vishay.com/docs/25014/eka.pdf; Value: 47uF
footprint CAPPR5-13X20 (Capacitor, Electrolytic, Radial; Body 13 x 20 mm (Dia.xH typ); Pin Spacing 5 mm (typ))
simulation model CAP (Capacitor)
signal-integrity model EKA00GE247M00
pins: 1, 2
1 alternate drawing of the same symbol

## EKA00GE247S00
designator C?
Aluminum Electrolytic Capacitor, Radial Style with Long Leads: 47uF, 200V; Note: Refer to Manufacturer's Data Sheets for other lead formations; DrillSize: Nominal, Rounded To The Nearest 0.1mm; Published: 19-Mar-2004; DatasheetDocument: 20-Feb-2001; PackageReference: CAPPR5-13X20; Publisher: Altium Limited; ComponentLink1Description: Manufacturer Link; ComponentLink1URL: http://www.vishay.com/; ComponentLink2Description: Datasheet; ComponentLink2URL: http://www.vishay.com/docs/25014/eka.pdf; Value: 47uF
footprint CAPPR5-13X20 (Capacitor, Electrolytic, Radial; Body 13 x 20 mm (Dia.xH typ); Pin Spacing 5 mm (typ))
simulation model CAP (Capacitor)
signal-integrity model EKA00GE247S00
pins: 1, 2
1 alternate drawing of the same symbol

## EKA00GE347J00
designator C?
Aluminum Electrolytic Capacitor, Radial Style with Long Leads: 470uF, 63V; Note: Refer to Manufacturer's Data Sheets for other lead formations; DrillSize: Nominal, Rounded To The Nearest 0.1mm; Published: 19-Mar-2004; DatasheetDocument: 20-Feb-2001; PackageReference: CAPPR5-13X20; Publisher: Altium Limited; ComponentLink1Description: Manufacturer Link; ComponentLink1URL: http://www.vishay.com/; ComponentLink2Description: Datasheet; ComponentLink2URL: http://www.vishay.com/docs/25014/eka.pdf; Value: 470uF
footprint CAPPR5-13X20 (Capacitor, Electrolytic, Radial; Body 13 x 20 mm (Dia.xH typ); Pin Spacing 5 mm (typ))
simulation model CAP (Capacitor)
signal-integrity model EKA00GE347J00
pins: 1, 2
1 alternate drawing of the same symbol

## EKA00GE410F00
designator C?
Aluminum Electrolytic Capacitor, Radial Style with Long Leads: 1000uF, 35V; Note: Refer to Manufacturer's Data Sheets for other lead formations; DrillSize: Nominal, Rounded To The Nearest 0.1mm; Published: 19-Mar-2004; DatasheetDocument: 20-Feb-2001; PackageReference: CAPPR5-13X20; Publisher: Altium Limited; ComponentLink1Description: Manufacturer Link; ComponentLink1URL: http://www.vishay.com/; ComponentLink2Description: Datasheet; ComponentLink2URL: http://www.vishay.com/docs/25014/eka.pdf; Value: 1000uF
footprint CAPPR5-13X20 (Capacitor, Electrolytic, Radial; Body 13 x 20 mm (Dia.xH typ); Pin Spacing 5 mm (typ))
simulation model CAP (Capacitor)
signal-integrity model EKA00GE410F00
pins: 1, 2
1 alternate drawing of the same symbol

## EKA00GE422D00
designator C?
Aluminum Electrolytic Capacitor, Radial Style with Long Leads: 2200uF, 16V; Note: Refer to Manufacturer's Data Sheets for other lead formations; DrillSize: Nominal, Rounded To The Nearest 0.1mm; Published: 19-Mar-2004; DatasheetDocument: 20-Feb-2001; PackageReference: CAPPR5-13X20; Publisher: Altium Limited; ComponentLink1Description: Manufacturer Link; ComponentLink1URL: http://www.vishay.com/; ComponentLink2Description: Datasheet; ComponentLink2URL: http://www.vishay.com/docs/25014/eka.pdf; Value: 2200uF
footprint CAPPR5-13X20 (Capacitor, Electrolytic, Radial; Body 13 x 20 mm (Dia.xH typ); Pin Spacing 5 mm (typ))
simulation model CAP (Capacitor)
signal-integrity model EKA00GE422D00
pins: 1, 2
1 alternate drawing of the same symbol

## EKA00GE433C00
designator C?
Aluminum Electrolytic Capacitor, Radial Style with Long Leads: 3300uF, 10V; Note: Refer to Manufacturer's Data Sheets for other lead formations; DrillSize: Nominal, Rounded To The Nearest 0.1mm; Published: 19-Mar-2004; DatasheetDocument: 20-Feb-2001; PackageReference: CAPPR5-13X20; Publisher: Altium Limited; ComponentLink1Description: Manufacturer Link; ComponentLink1URL: http://www.vishay.com/; ComponentLink2Description: Datasheet; ComponentLink2URL: http://www.vishay.com/docs/25014/eka.pdf; Value: 3300uF
footprint CAPPR5-13X20 (Capacitor, Electrolytic, Radial; Body 13 x 20 mm (Dia.xH typ); Pin Spacing 5 mm (typ))
simulation model CAP (Capacitor)
signal-integrity model EKA00GE433C00
pins: 1, 2
1 alternate drawing of the same symbol

## EKA00GE447B00
designator C?
Aluminum Electrolytic Capacitor, Radial Style with Long Leads: 4700uF, 6.3V; Note: Refer to Manufacturer's Data Sheets for other lead formations; DrillSize: Nominal, Rounded To The Nearest 0.1mm; Published: 19-Mar-2004; DatasheetDocument: 20-Feb-2001; PackageReference: CAPPR5-13X20; Publisher: Altium Limited; ComponentLink1Description: Manufacturer Link; ComponentLink1URL: http://www.vishay.com/; ComponentLink2Description: Datasheet; ComponentLink2URL: http://www.vishay.com/docs/25014/eka.pdf; Value: 4700uF
footprint CAPPR5-13X20 (Capacitor, Electrolytic, Radial; Body 13 x 20 mm (Dia.xH typ); Pin Spacing 5 mm (typ))
simulation model CAP (Capacitor)
signal-integrity model EKA00GE447B00
pins: 1, 2
1 alternate drawing of the same symbol

## EKA00GG210P00
designator C?
Aluminum Electrolytic Capacitor, Radial Style with Long Leads: 22uF, 450V; Note: Refer to Manufacturer's Data Sheets for other lead formations; DrillSize: Nominal, Rounded To The Nearest 0.1mm; Published: 19-Mar-2004; DatasheetDocument: 20-Feb-2001; PackageReference: CAPPR5-13X25; Publisher: Altium Limited; ComponentLink1Description: Manufacturer Link; ComponentLink1URL: http://www.vishay.com/; ComponentLink2Description: Datasheet; ComponentLink2URL: http://www.vishay.com/docs/25014/eka.pdf; Value: 22uF
footprint CAPPR5-13X25 (Capacitor, Electrolytic, Radial; Body 13 x 25 mm (Dia.xH typ); Pin Spacing 5 mm (typ))
simulation model CAP (Capacitor)
signal-integrity model EKA00GG210P00
pins: 1, 2
1 alternate drawing of the same symbol

## EKA00GG222X00
designator C?
Aluminum Electrolytic Capacitor, Radial Style with Long Leads: 22uF, 400V; Note: Refer to Manufacturer's Data Sheets for other lead formations; DrillSize: Nominal, Rounded To The Nearest 0.1mm; Published: 19-Mar-2004; DatasheetDocument: 20-Feb-2001; PackageReference: CAPPR5-13X25; Publisher: Altium Limited; ComponentLink1Description: Manufacturer Link; ComponentLink1URL: http://www.vishay.com/; ComponentLink2Description: Datasheet; ComponentLink2URL: http://www.vishay.com/docs/25014/eka.pdf; Value: 22uF
footprint CAPPR5-13X25 (Capacitor, Electrolytic, Radial; Body 13 x 25 mm (Dia.xH typ); Pin Spacing 5 mm (typ))
simulation model CAP (Capacitor)
signal-integrity model EKA00GG222X00
pins: 1, 2
1 alternate drawing of the same symbol

## EKA00GG233O00
designator C?
Aluminum Electrolytic Capacitor, Radial Style with Long Leads: 33uF, 350V; Note: Refer to Manufacturer's Data Sheets for other lead formations; DrillSize: Nominal, Rounded To The Nearest 0.1mm; Published: 19-Mar-2004; DatasheetDocument: 20-Feb-2001; PackageReference: CAPPR5-13X25; Publisher: Altium Limited; ComponentLink1Description: Manufacturer Link; ComponentLink1URL: http://www.vishay.com/; ComponentLink2Description: Datasheet; ComponentLink2URL: http://www.vishay.com/docs/25014/eka.pdf; Value: 33uF
footprint CAPPR5-13X25 (Capacitor, Electrolytic, Radial; Body 13 x 25 mm (Dia.xH typ); Pin Spacing 5 mm (typ))
simulation model CAP (Capacitor)
signal-integrity model EKA00GG233O00
pins: 1, 2
1 alternate drawing of the same symbol

## EKA00GG247N00
designator C?
Aluminum Electrolytic Capacitor, Radial Style with Long Leads: 47uF, 250V; Note: Refer to Manufacturer's Data Sheets for other lead formations; DrillSize: Nominal, Rounded To The Nearest 0.1mm; Published: 19-Mar-2004; DatasheetDocument: 20-Feb-2001; PackageReference: CAPPR5-13X25; Publisher: Altium Limited; ComponentLink1Description: Manufacturer Link; ComponentLink1URL: http://www.vishay.com/; ComponentLink2Description: Datasheet; ComponentLink2URL: http://www.vishay.com/docs/25014/eka.pdf; Value: 47uF
footprint CAPPR5-13X25 (Capacitor, Electrolytic, Radial; Body 13 x 25 mm (Dia.xH typ); Pin Spacing 5 mm (typ))
simulation model CAP (Capacitor)
signal-integrity model EKA00GG247N00
pins: 1, 2
1 alternate drawing of the same symbol

## EKA00GG310M00
designator C?
Aluminum Electrolytic Capacitor, Radial Style with Long Leads: 100uF, 160V; Note: Refer to Manufacturer's Data Sheets for other lead formations; DrillSize: Nominal, Rounded To The Nearest 0.1mm; Published: 19-Mar-2004; DatasheetDocument: 20-Feb-2001; PackageReference: CAPPR5-13X25; Publisher: Altium Limited; ComponentLink1Description: Manufacturer Link; ComponentLink1URL: http://www.vishay.com/; ComponentLink2Description: Datasheet; ComponentLink2URL: http://www.vishay.com/docs/25014/eka.pdf; Value: 100uF
footprint CAPPR5-13X25 (Capacitor, Electrolytic, Radial; Body 13 x 25 mm (Dia.xH typ); Pin Spacing 5 mm (typ))
simulation model CAP (Capacitor)
signal-integrity model EKA00GG310M00
pins: 1, 2
1 alternate drawing of the same symbol

## EKA00GG322L00
designator C?
Aluminum Electrolytic Capacitor, Radial Style with Long Leads: 220uF, 100V; Note: Refer to Manufacturer's Data Sheets for other lead formations; DrillSize: Nominal, Rounded To The Nearest 0.1mm; Published: 19-Mar-2004; DatasheetDocument: 20-Feb-2001; PackageReference: CAPPR5-13X25; Publisher: Altium Limited; ComponentLink1Description: Manufacturer Link; ComponentLink1URL: http://www.vishay.com/; ComponentLink2Description: Datasheet; ComponentLink2URL: http://www.vishay.com/docs/25014/eka.pdf; Value: 220uF
footprint CAPPR5-13X25 (Capacitor, Electrolytic, Radial; Body 13 x 25 mm (Dia.xH typ); Pin Spacing 5 mm (typ))
simulation model CAP (Capacitor)
signal-integrity model EKA00GG322L00
pins: 1, 2
1 alternate drawing of the same symbol

## EKA00GG410H00
designator C?
Aluminum Electrolytic Capacitor, Radial Style with Long Leads: 1000uF, 50V; Note: Refer to Manufacturer's Data Sheets for other lead formations; DrillSize: Nominal, Rounded To The Nearest 0.1mm; Published: 19-Mar-2004; DatasheetDocument: 20-Feb-2001; PackageReference: CAPPR5-13X25; Publisher: Altium Limited; ComponentLink1Description: Manufacturer Link; ComponentLink1URL: http://www.vishay.com/; ComponentLink2Description: Datasheet; ComponentLink2URL: http://www.vishay.com/docs/25014/eka.pdf; Value: 1000uF
footprint CAPPR5-13X25 (Capacitor, Electrolytic, Radial; Body 13 x 25 mm (Dia.xH typ); Pin Spacing 5 mm (typ))
simulation model CAP (Capacitor)
signal-integrity model EKA00GG410H00
pins: 1, 2
1 alternate drawing of the same symbol

## EKA00GG422E00
designator C?
Aluminum Electrolytic Capacitor, Radial Style with Long Leads: 2200uF, 25V; Note: Refer to Manufacturer's Data Sheets for other lead formations; DrillSize: Nominal, Rounded To The Nearest 0.1mm; Published: 19-Mar-2004; DatasheetDocument: 20-Feb-2001; PackageReference: CAPPR5-13X25; Publisher: Altium Limited; ComponentLink1Description: Manufacturer Link; ComponentLink1URL: http://www.vishay.com/; ComponentLink2Description: Datasheet; ComponentLink2URL: http://www.vishay.com/docs/25014/eka.pdf; Value: 2200uF
footprint CAPPR5-13X25 (Capacitor, Electrolytic, Radial; Body 13 x 25 mm (Dia.xH typ); Pin Spacing 5 mm (typ))
simulation model CAP (Capacitor)
signal-integrity model EKA00GG422E00
pins: 1, 2
1 alternate drawing of the same symbol